# Altium footprint library Gate Driver Board.PcbLib: 20 footprints (part 2 of 2)
Each footprint in its own frame and in the unit in brackets; x right, y up, seen from the top. Pads: shape width x height; smd on the part's side, far side on the other; paste and mask are expansions set on the pad; w line width, h text height; cw(c..) or ccw(c..) is an arc to the next point about the centre after c.
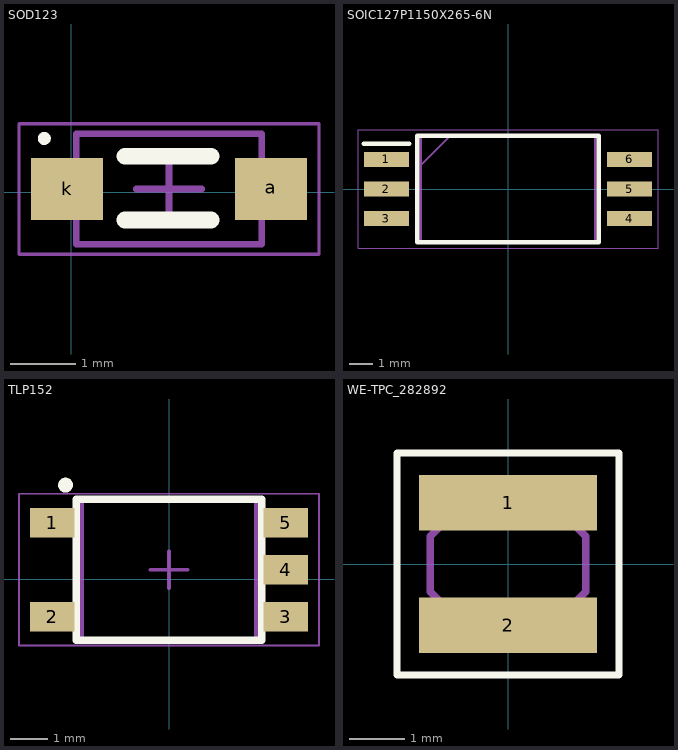
[diagram p1: the footprints below, top view; thin cyan lines are the x and y axes]

## SOD123 [mm]
height 1.35
pads (2):
  rect 1.1x0.95 smd: a(3.063,0.05) k(-0.062,0.05)
Top Overlay:
  circle w0.1: c-0.412,0.825 r0.05
  lines w0.254: 0.825,-0.425 2.15,-0.425 ; 0.825,0.55 2.15,0.55
Assembly Top:
  lines w0.1: 0.075,-0.8 2.925,-0.8 2.925,0.9 0.075,0.9 0.075,-0.8
Courtyard Top:
  lines w0.05: -0.8,-0.95 3.8,-0.95 3.8,1.05 -0.8,1.05 -0.8,-0.95
  lines w0.1: 1,0.05 2,0.05 ; 1.5,-0.45 1.5,0.55
3D body "CircuitWorks-SOD123.STEP": height 1.28, standoff 0.01, extent -0.375,-0.775 3.325,0.825

## SOIC127P1150X265-6N [mm]
pads (6):
  rect 1.95x0.65 smd: 1(-5.225,1.27) 2(-5.225,0) 3(-5.225,-1.27) 4(5.225,-1.27) 5(5.225,0) 6(5.225,1.27)
Top Overlay:
  lines w0.2: -6.2,1.945 -4.25,1.945 ; -3.9,-2.29 3.9,-2.29 3.9,2.29 -3.9,2.29 -3.9,-2.29
Mechanical 13:
  lines w0.1: -3.75,1.02 -2.48,2.29 ; -3.75,-2.29 3.75,-2.29 3.75,2.29 -3.75,2.29 -3.75,-2.29
Mechanical 15:
  lines w0.05: -6.45,-2.54 6.45,-2.54 6.45,2.54 -6.45,2.54 -6.45,-2.54
3D body "Si8261ACD-C-IS.stp": height 2.65, standoff 0, extent -5.75,-2.29 5.75,2.29

## TLP152 [mm] "SOTFL, 5-Leads, Body 3.75x7.20mm, Pitch 1.27mm, IPC Medium Density"
height 2.2
pads (5):
  rect 1.2x0.8 smd: 1(-3.15,1.524) 2(-3.15,-1.016) 3(3.15,-1.016) 4(3.15,0.254) 5(3.15,1.524)
Top Overlay:
  lines w0.2: -2.5,-1.646 -2.5,2.154 2.5,2.154 2.5,-1.646 -2.5,-1.646
  lines w0.25: -2.72,2.538 cw(c-2.794,2.54) -2.72,2.547
Assembly Top:
  lines w0.1: -2.35,-1.646 2.35,-1.646 2.35,2.154 -2.35,2.154 -2.35,-1.646
Courtyard Top:
  lines w0.05: -4.05,-1.796 4.05,-1.796 4.05,2.304 -4.05,2.304 -4.05,-1.796
  lines w0.1: -0.5,0.254 0.5,0.254 ; 0,-0.246 0,0.754
3D body "User Library-TLP-152-1.STEP": height 2.11, standoff 0.01, extent -3.393,-1.651 3.383,2.149

## WE-TPC_282892 [mm]
pads (2):
  rect 3.2x1 smd: 1(0,1.1) 2(0,-1.1)
Top Overlay:
  lines w0.127: -2,-2 2,-2 2,2 -2,2 -2,-2
Mechanical 13:
  lines w0.127: -1.4,-0.5 -1.4,0.5 -0.5,1.4 0.5,1.4 1.4,0.5 1.4,-0.5 0.5,-1.4 -0.5,-1.4 -1.4,-0.5
3D body "User Library-SDR0302.STEP": height 3, standoff 0, extent -1.575,-1.5 1.409,1.5